# Altium schematic symbol library PE42420F.SchLib: 1 symbol
Pins are listed as number, name and electrical type; pins without a type are passive.

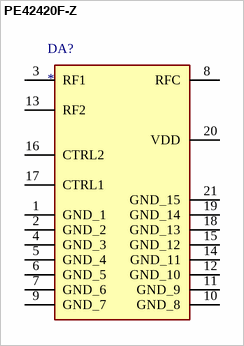
[diagram p0: symbol PE42420F-Z]

## PE42420F-Z
designator DA?
UltraCMOS SPDT RF Switch 20–6000 MHz; Manufacturer_Name: Peregrine Semiconductor; Manufacturer_Part_Number: PE42420C-Z; Datasheet Link: http://www.psemi.com/pdf/datasheets/pe42420ds.pdf; Height: 1.01mm
footprint PE42420CZ
pins: 1 GND_1, 2 GND_2, 3 RF1, 4 GND_3, 5 GND_4, 6 GND_5, 7 GND_6, 8 RFC, 9 GND_7, 10 GND_8, 11 GND_9, 12 GND_10, 13 RF2, 14 GND_11, 15 GND_12, 16 CTRL2, 17 CTRL1, 18 GND_13, 19 GND_14, 20 VDD, 21 GND_15